# EAGLE library part PINHEAD2X10_STM32F031_BOARD (library pinhead)
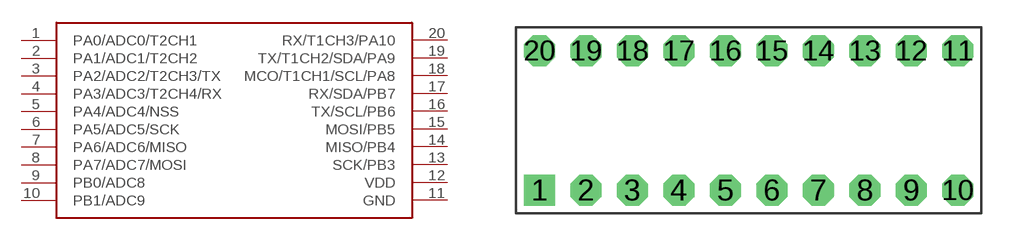
[diagram p0: symbol with the pads of PINHEAD2X10_STM32F031_BOARD; footprint PINHEAD2X10_STM32F031_BOARD]

Designator prefix -

## PINHEAD2X10_STM32F031_BOARD  [PINHEAD2X10_STM32F031_BOARD]
1  PA0/ADC0/T2CH1
2  PA1/ADC1/T2CH2
3  PA2/ADC2/T2CH3/TX
4  PA3/ADC3/T2CH4/RX
5  PA4/ADC4/NSS
6  PA5/ADC5/SCK
7  PA6/ADC6/MISO
8  PA7/ADC7/MOSI
9  PB0/ADC8
10  PB1/ADC9
11  GND
12  VDD
13  SCK/PB3
14  MISO/PB4
15  MOSI/PB5
16  TX/SCL/PB6
17  RX/SDA/PB7
18  MCO/T1CH1/SCL/PA8
19  TX/T1CH2/SDA/PA9
20  RX/T1CH3/PA10

## Footprint PINHEAD2X10_STM32F031_BOARD (pad centres in mm)
drill 0.8 pad 1.676 square: 1 0,0
drill 0.8 pad 1.676 octagon: 2 2.54,0; 3 5.08,0; 4 7.62,0; 5 10.16,0; 6 12.7,0; 7 15.24,0; 8 17.78,0; 9 20.32,0; 10 22.86,0; 11 22.86,7.62; 12 20.32,7.62; 13 17.78,7.62; 14 15.24,7.62; 15 12.7,7.62; 16 10.16,7.62; 17 7.62,7.62; 18 5.08,7.62; 19 2.54,7.62; 20 0,7.62